# Altium footprint library USB.PcbLib: 1 footprints
Each footprint in its own frame and in the unit in brackets; x right, y up, seen from the top. Pads: shape width x height; smd on the part's side, far side on the other; paste and mask are expansions set on the pad; w line width, h text height; cw(c..) or ccw(c..) is an arc to the next point about the centre after c.
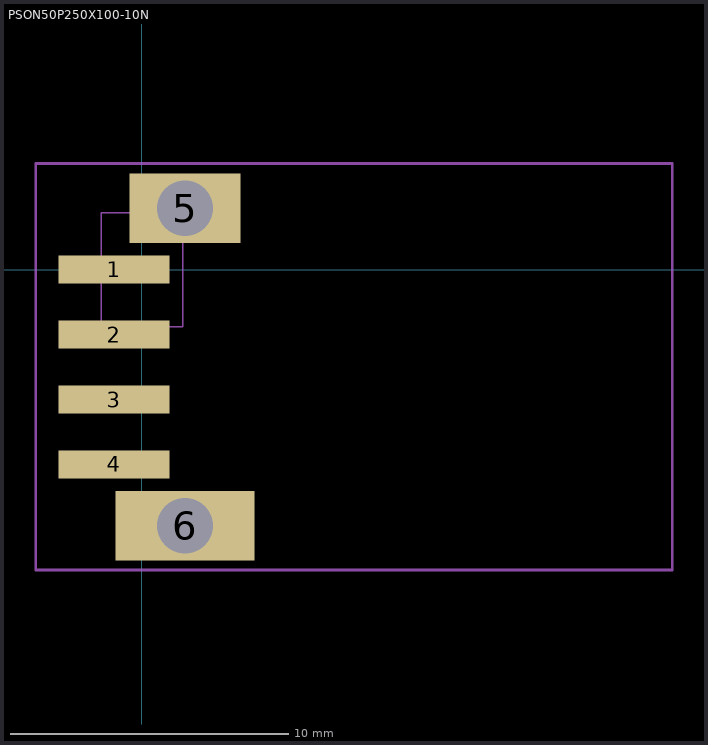
[diagram p0: the footprint, top view; thin cyan lines are the x and y axes]

## PSON50P250X100-10N [mm] "PSON, 10-Leads, Body 3,50x2,50mm, Pitch 0,50mm, IPC Medium Density"
height 1
pads (6):
  rect 4x1 smd: 1(-1,0) 2(-1,-2.333) 3(-1,-4.667) 4(-1,-7)
  rect 4x2.5 hole 2: 5(1.55,2.2)
  rect 5x2.5 hole 2: 6(1.55,-9.2)
Mechanical 13:
  lines w0.1: -3.81,-10.795 -3.81,3.81 19.05,3.81 19.05,-10.795 -3.81,-10.795
Mechanical 15:
  lines w0.05: -1.46,-2.05 1.46,-2.05 1.46,2.05 -1.46,2.05 -1.46,-2.05
3D body: height 4.5, standoff -1.3, extent -1.26,-9.779 19.04,2.827